# EAGLE library part 62101021921 (library Wurth_Elektronik2)
WR-PHD 2.00mm Dual SMT Pin Header, 10 Pins=>Code :WR-PHD_SMD_2,00mm_zweireihig62101021921 <http://katalog.we-online.de/media/images/eican/WR-PHD_SMD_2,00mm_zweireihig62103221921.jpg> Details see: http://katalog.we-online.de/en/em/621_0xx_219_21 Created 2014-06-03, Karrer Zheng 2014 (C) Würth Elektronik
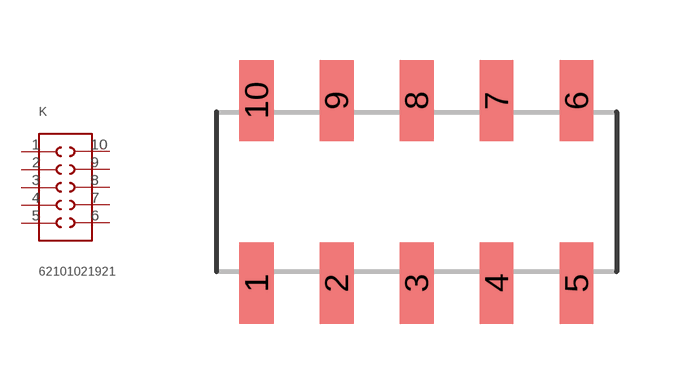
[diagram p244: symbol with the pads of 62101021921; footprint 62101021921]

Designator prefix K

## 62101021921  [62101021921]
1  1  pas
2  2  pas
3  3  pas
4  4  pas
5  5  pas
6  6  pas
7  7  pas
8  8  pas
9  9  pas
10  10  pas

## Footprint 62101021921 (pad centres in mm)
WR-PHD 2.00mm Dual SMT Pin Header, 10 Pins
smd 0.85 x 2.03: 1 -8.27,-2.285; 2 -6.27,-2.285; 3 -4.27,-2.285; 4 -2.27,-2.285; 5 -0.27,-2.285; 6 -0.27,2.285; 7 -2.27,2.285; 8 -4.27,2.285; 9 -6.27,2.285; 10 -8.27,2.285